# Altium schematic symbol library BD46421G-TR.SchLib: 1 symbol
Pins are listed as number, name and electrical type; pins without a type are passive.

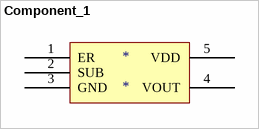
[diagram p0: symbol Component_1]

## Component_1
designator *
pins: 1 ER, 2 SUB, 3 GND, 4 VOUT, 5 VDD